# Altium integrated library MAX2771ETI_.IntLib: 1 symbol
Pins are listed as number, name and electrical type; pins without a type are passive.

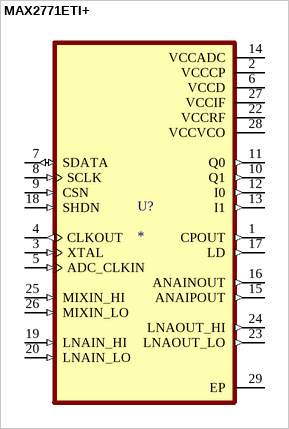
[diagram p0: symbol MAX2771ETI+]

## MAX2771ETI+
designator U?
MP: MAX2771ETI+; Package: None; Value: *; Availability: Unavailable; Price: None
footprint QFN50P500X500X80-29N
pins: 1 CPOUT (out), 2 VCCCP (power), 3 XTAL (in), 4 CLKOUT (out), 5 ADC_CLKIN (in), 6 VCCD (power), 7 SDATA (io), 8 SCLK (in), 9 CSN (in), 10 Q1 (out), 11 Q0 (out), 12 I0 (out), 13 I1 (out), 14 VCCADC (power), 15 ANAIPOUT (out), 16 ANAINOUT (out), 17 LD (out), 18 SHDN (in), 19 LNAIN_HI (in), 20 LNAIN_LO (in), 22 VCCRF (power), 23 LNAOUT_LO (out), 24 LNAOUT_HI (out), 25 MIXIN_HI (in), 26 MIXIN_LO (in), 27 VCCIF (power), 28 VCCVCO (power), 29 EP (power)